# Altium footprint library 640456-6.PcbLib: 1 footprints
Each footprint in its own frame and in the unit in brackets; x right, y up, seen from the top. Pads: shape width x height; smd on the part's side, far side on the other; paste and mask are expansions set on the pad; w line width, h text height; cw(c..) or ccw(c..) is an arc to the next point about the centre after c.
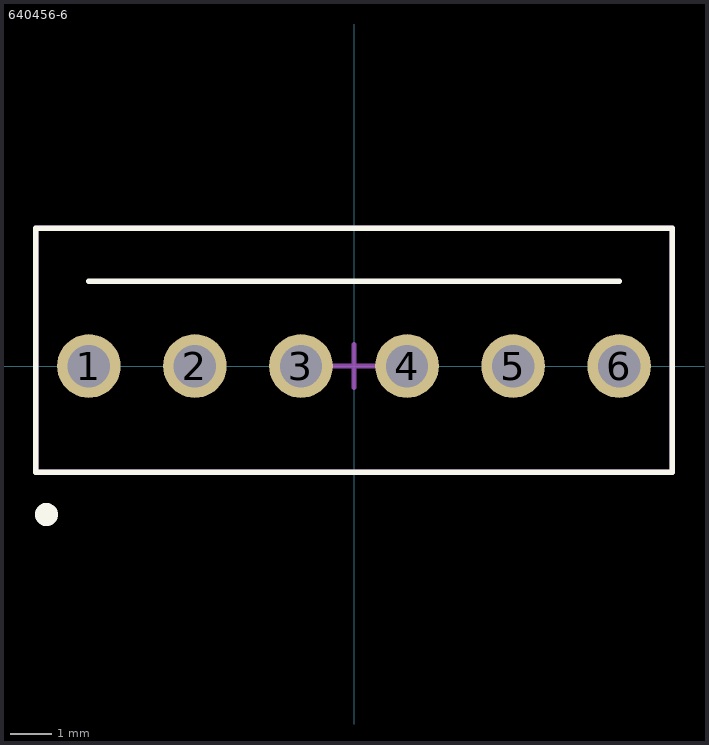
[diagram p0: the footprint, top view; thin cyan lines are the x and y axes]

## 640456-6 [mil]
height 295
pads (6):
  round 60 hole 40: 1(-250,0) 2(-150,0) 3(-50,0) 4(50,0) 5(150,0) 6(250,0)
Top Overlay:
  circle w11.81: c-290,-140 r5
  lines w5: -250,80 250,80 ; -300,-100 -300,130 300,130 300,-100 -300,-100
Mechanical 13:
  lines w5: -300,-100 300,-100 300,130 -300,130 -300,-100
Mechanical 15:
  lines w5: -20,0 0,0 ; 0,-20 0,0 ; 0,20 0,0 ; 0,0 20,0 0,0
3D body "c-640456-6-aa-3d.stp": height 397.36, standoff -137.64, extent -300,-100 300,130